# Altium footprint library MICROCHIP_PKG_SOT23(C04-2091-OT).PcbLib: 1 footprints
Each footprint in its own frame and in the unit in brackets; x right, y up, seen from the top. Pads: shape width x height; smd on the part's side, far side on the other; paste and mask are expansions set on the pad; w line width, h text height; cw(c..) or ccw(c..) is an arc to the next point about the centre after c.
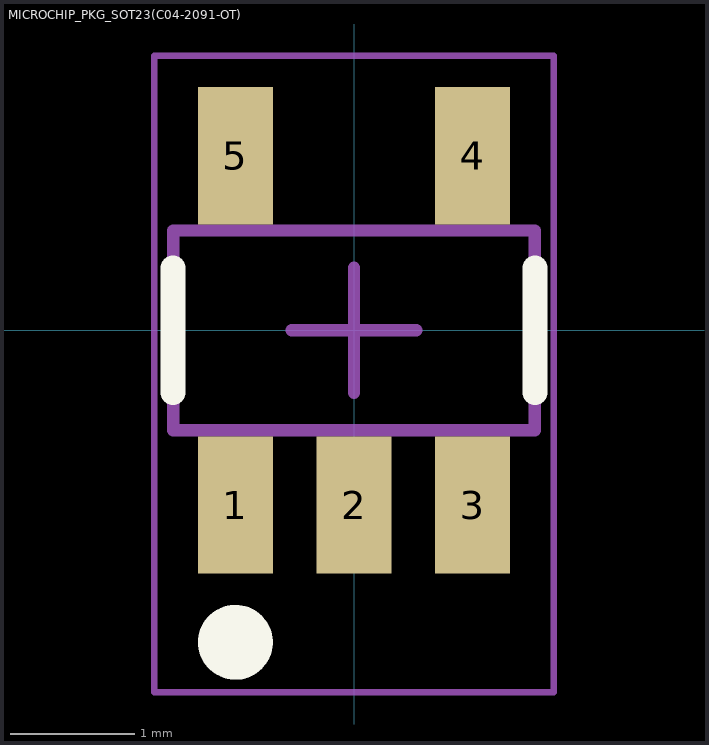
[diagram p0: the footprint, top view; thin cyan lines are the x and y axes]

## MICROCHIP_PKG_SOT23(C04-2091-OT) [mm]
height 1.1
pads (5):
  rect 0.6x1.1 smd: 1(-0.95,-1.4) 2(0,-1.4) 3(0.95,-1.4) 4(0.95,1.4) 5(-0.95,1.4)
Top Overlay:
  circle w0.3: c-0.95,-2.5 r0.15
  lines w0.2: -1.45,-0.5 -1.45,0.5 ; 1.45,-0.5 1.45,0.5
Mechanical 13 (Mech13):
  lines w0.1: -1.45,-0.8 -1.45,0.8 1.45,0.8 1.45,-0.8 -1.45,-0.8
Mechanical 15:
  lines w0.05: -1.6,-2.9 1.6,-2.9 1.6,2.2 -1.6,2.2 -1.6,-2.9
  lines w0.1: -0.5,0 0.5,0 ; 0,-0.5 0,0.5
3D body: height 1.45, standoff 0, extent -1.45,-0.8 1.45,0.8